# EAGLE library part MMA7260Q (library freescale-accelerometer)
XYZ AXIS ACCELEROMETER ±1.5g/2g/4g/6g desig@radikaldesig.com
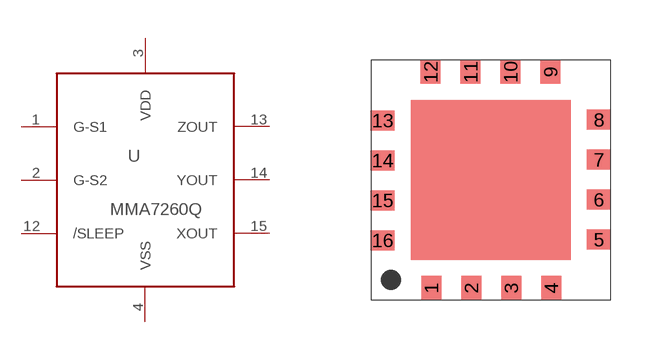
[diagram p0: symbol with the pads of 16QFN; footprint 16QFN]

Designator prefix U

## MMA7260Q  [16QFN]
1  G-S1
2  G-S2
3  VDD
4  VSS
12  /SLEEP
13  ZOUT
14  YOUT
15  XOUT

## Footprint 16QFN (pad centres in mm)
16-Pin QFN Package, CASE 1477-01 ISSUE O desig@radikaldesig.com
smd 0.5 x 0.6: 1 -1.667,-2.88; 2 -0.667,-2.88; 3 0.333,-2.88; 4 1.333,-2.88; 9 1.317,2.53; 10 0.317,2.53; 11 -0.683,2.53; 12 -1.683,2.53
smd 0.6 x 0.5: 5 2.53,-1.667; 6 2.53,-0.667; 7 2.53,0.333; 8 2.53,1.333; 13 -2.88,1.317; 14 -2.88,0.317; 15 -2.88,-0.683; 16 -2.88,-1.683